# Altium schematic symbol library RK3568_train.SCHLIB: 159 symbols (part 3 of 3)
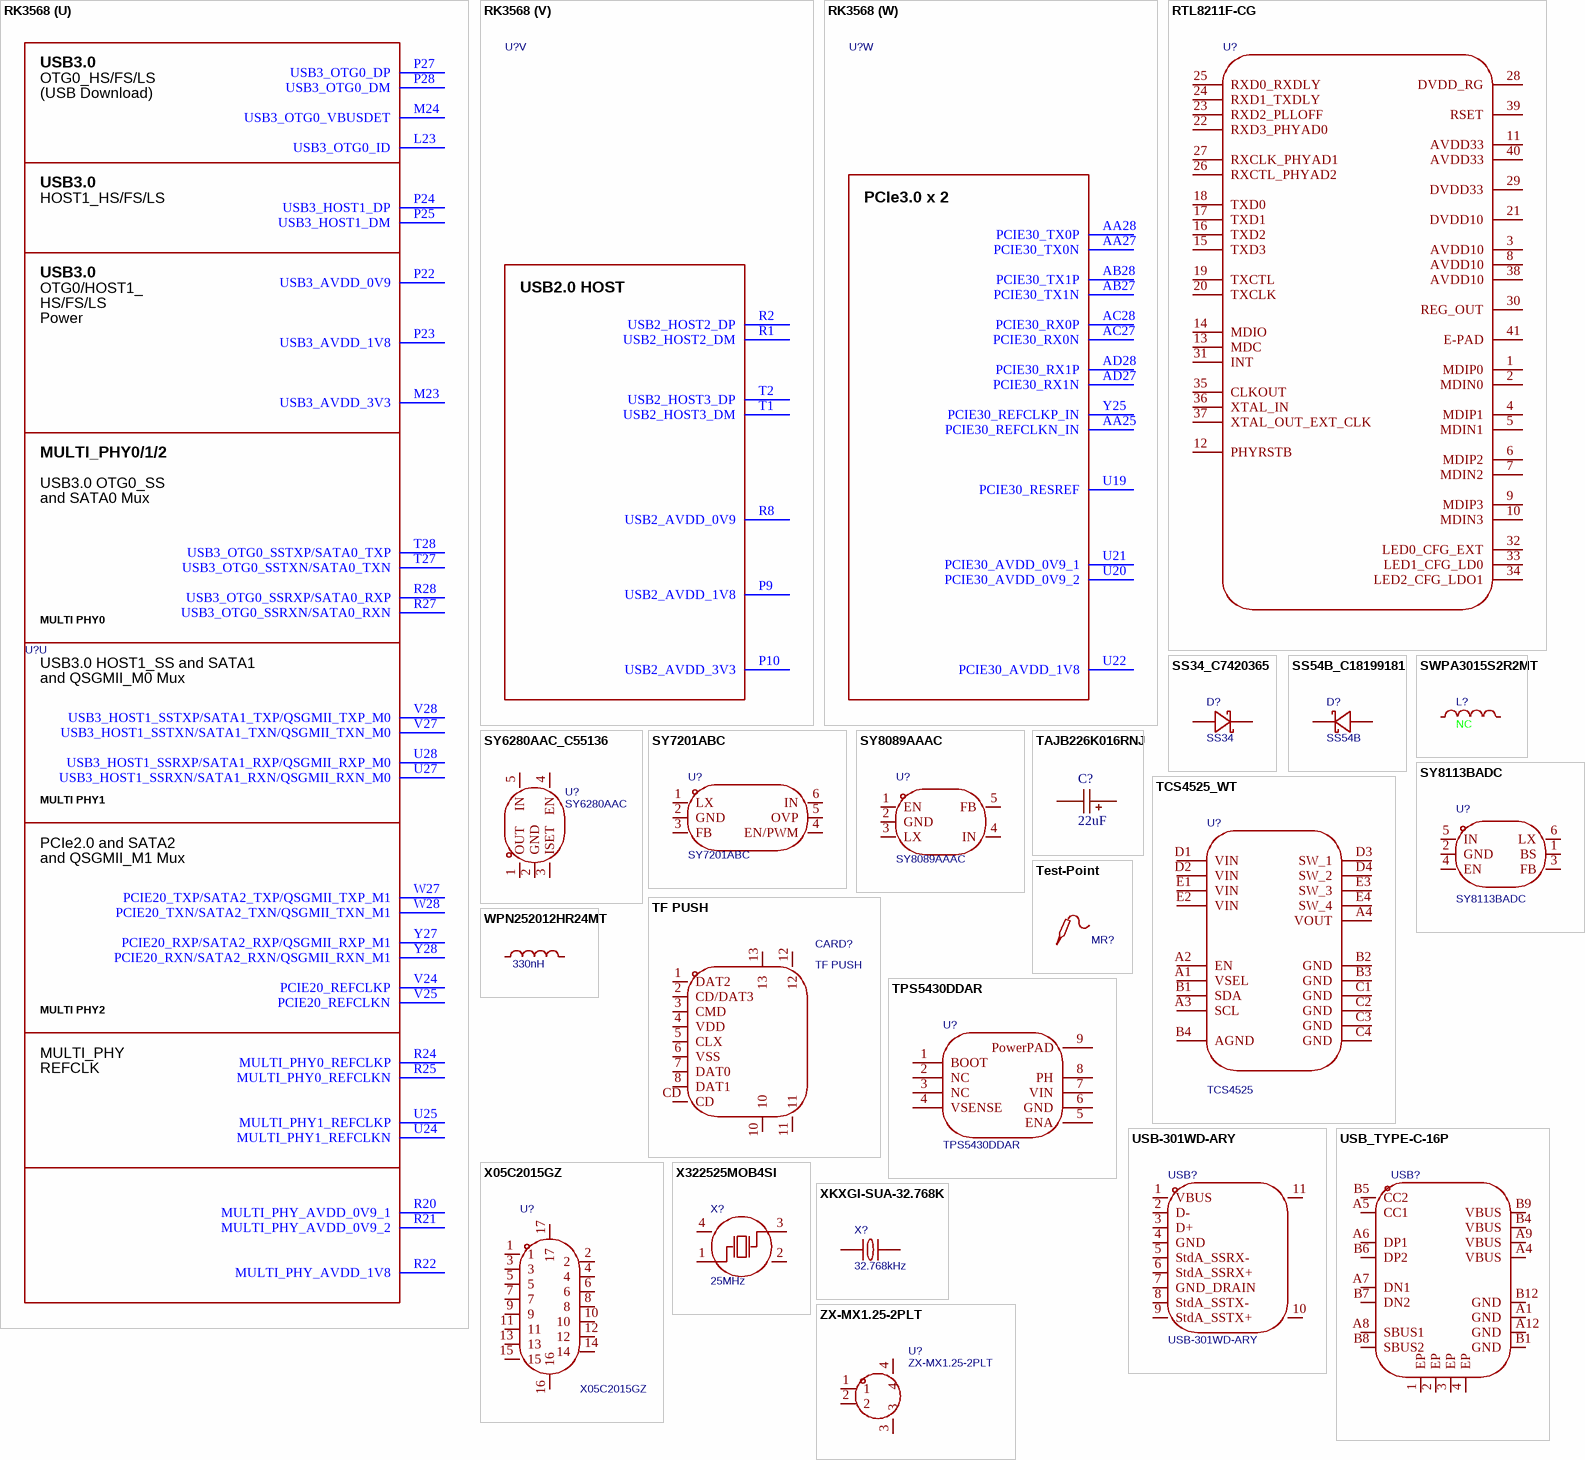
[diagram p13: symbols RK3568 to ZX-MX1.25-2PLT]

## SY6280AAC_C55136
designator U?, comment SY6280AAC
低能耗配电开关; Manufacturer: silergy(矽力杰); Device: SY6280AAC_C55136; AddInBom: yes; ModelId: 0a2a1b8f50944f73965918ad6e5fe167; ModelName: SOT-23-5_L2.9-W1.6-H1.1-LS2.8-P0.95; ModelTransform: 118.60433,114.173,0,90,0,0,0.0005,0.0005,0; Symbol: SY6280AAC; LCSC Part Name: SY6280AAC; SupplierPart: C55136; ManufacturerPart: SY6280AAC; Supplier Footprint: SOT-23-5; JLCPCB Part Class: Extended Part; Datasheet: https://atta.szlcsc.com/upload/public/pdf/source/20161108/1478586372822.pdf; Supplier: LCSC; ConvertToPcb: yes; FootprintName: SOT-23-5_L3.0-W1.7-P0.95-LS2.8-BL
footprint SOT-23-5_L3.0-W1.7-P0.95-LS2.8-BL
pins: 1 OUT, 2 GND, 3 ISET, 4 EN, 5 IN

## SY7201ABC
designator U?
拓扑结构:升压;; Manufacturer: Silergy(矽力杰); AddInBom: yes; ModelId: 18da8f6c14a34920b3e136b5c401a119; ModelName: SOT-23-6_L2.9-W1.6-H1.5-LS2.8-P0.95; ModelTransform: 110.73671,114.173,0,180,0,0,0.001,-0.003,0; Topology: 升压; Symbol: SY7201ABC; Device: SY7201ABC; LCSC Part Name: SY7201ABC; SupplierPart: C82173; ManufacturerPart: SY7201ABC; Supplier Footprint: SOT-23-6; JLCPCB Part Class: 扩展库; Datasheet: https://atta.szlcsc.com/upload/public/pdf/source/20160903/1472896628181.pdf; Supplier: LCSC; ConvertToPcb: yes; FootprintName: SOT-23-6_L2.9-W1.6-P0.95-LS2.8-BR
footprint SOT-23-6_L2.9-W1.6-P0.95-LS2.8-BR
pins: 1 LX, 2 GND, 3 FB, 4 EN/PWM, 5 OVP, 6 IN

## SY8089AAAC
designator U?
功能类型:降压型;同步整流:-;输出通道数:-;拓扑结构:-;输入电压:-;输出电流(最大值):-;开关频率:-;; Manufacturer: silergy(矽力杰); Value: NC; Add into BOM: no; ConvertToPcb: yes; ModelId: 0a2a1b8f50944f73965918ad6e5fe167; ModelName: SOT-23-5_L2.9-W1.6-H1.1-LS2.8-P0.95; ModelTransform: 114.173,109.636,0,180,0,0,-0.863,0.863,0; Function: 降压型; Device: SY8089AAAC; Symbol: SY8089AAAC; LCSC Part Name: 降压型; ManufacturerPart: SY8089AAAC; Supplier Footprint: SOT-23-5; JLCPCB Part Class: Extended Part; Datasheet: https://atta.szlcsc.com/upload/public/pdf/source/20210826/394049C81A2AF57A190C26FDBC282657.pdf; Supplier: LCSC; FootprintName: SOT-23-5_L3.0-W1.7-P0.95-LS2.8-BR; Synchronous Rectification: -; Number of Outputs: -; Topology: -; Input Voltage: -; Output Current (Max): -; Switching Frequency: -
footprint SOT-23-5_L3.0-W1.7-P0.95-LS2.8-BR
pins: 1 EN, 2 GND, 3 LX, 4 IN, 5 FB

## SY8113BADC
designator U?
功能类型:降压型;同步整流:-;输出通道数:-;拓扑结构:-;输入电压:-;输出电流(最大值):-;开关频率:-;; Manufacturer: silergy(矽力杰); AddInBom: yes; Function: 降压型; ModelId: 2c4039b5b88644c1bda4b4ba9e971667; ModelName: TSOT-23-6_L2.9-W1.6-H1.1-LS2.8-P0.95; ModelTransform: 110.45568,114.173,0,180,0,0,-0.005,-0.0005,0; JLCPCB Part Class: Extended Part; Device: SY8113BADC; LCSC Part Name: 降压型; SupplierPart: C78989; ManufacturerPart: SY8113BADC; Supplier Footprint: TSOT-23-6; Datasheet: https://atta.szlcsc.com/upload/public/pdf/source/20161125/1480067827505.pdf; Supplier: LCSC; ConvertToPcb: yes; Synchronous Rectification: -; Number of Outputs: -; Topology: -; Input Voltage: -; Output Current (Max): -; Switching Frequency: -; SymbolName: SY8113BADC; FootprintName: TSOT-23-6_L2.9-W1.6-P0.95-LS2.8-BR
footprint TSOT-23-6_L2.9-W1.6-P0.95-LS2.8-BR
pins: 1 BS, 2 GND, 3 FB, 4 EN, 5 IN, 6 LX

## TAJB226K016RNJ
designator C?, comment 22uF
容值:22uF;精度:±10%;额定电压:16V;等效串联电阻(ESR):2.3Ω@100kHz;; Manufacturer: Kyocera AVX; Manufacturer Part: TAJB226K016RNJ; NPNP_COMPONENT_ID: C8020; Tolerance: ?0%; Voltage Rating: 16V; Footprint: CASE-B_3528; Equivalent Series Resistance(ESR): 2.3Ω@100kHz; JLCPCB Part Class: Extended Part; LCSC Part Name: 22uF ?0% 16V; Operating Temperature: -55℃~+125℃; Supplier: LCSC; Supplier Footprint: CASE-B-3528-21(mm); Supplier Part: C8020; Value: 22uF
footprint CASE-B_3528 (PCB footprint)
pins: 1, 2

## TCS4525_WT
designator U?, comment TCS4525
高频，高电流同步降压DC-DC模块; Device: TCS4525_WT; Check: false; AddInBom: yes; ConvertToPcb: yes; SymbolName: TCS4525_WT; FootprintName: TCS4525
footprint TCS4525
pins: A1 VSEL, A2 EN, A3 SCL, A4 VOUT, B1 SDA, B2 GND, B3 GND, B4 AGND, C1 GND, C2 GND, C3 GND, C4 GND, D1 VIN, D2 VIN, D3 SW_1, D4 SW_2, E1 VIN, E2 VIN, E3 SW_3, E4 SW_4

## Test-Point
designator MR?
Test Point 测试点; Device: Test-Point; AddInBom: yes; ConvertToPcb: yes; SymbolName: Test-Point; FootprintName: Test-Point-0.5mm
footprint Test-Point-0.5mm
pins: 1

## TF PUSH
designator CARD?
卡连接方式:自弹式;卡类型:MicroSD卡(TF卡);连接器类型:卡座;本体最大高度:2mm;工作温度范围:-20℃~+90℃;; Manufacturer: SHOU HAN(首韩); AddInBom: yes; ModelId: 2d6270e77c9a43c6bb0aca962ba811a2; ModelName: TF-SMD_TF-PUSH; ModelTransform: 635.826,598.424,0,0,0,0,0.002,-82.441,-23.622; Card Connection Mode: 自弹式; Connector Type: 卡座; Additional Card Detection Pins: 无; Maximum Body Height: 2mm; Symbol: TF PUSH; Device: TF PUSH; LCSC Part Name: 自弹式 MicroSD卡(TF卡) 卡座; SupplierPart: C393941; ManufacturerPart: TF PUSH; Supplier Footprint: SMD; JLCPCB Part Class: 扩展库; Datasheet: https://atta.szlcsc.com/upload/public/pdf/source/20191011/C393941_0DDD896EE907FEB750D8B7B8982E2A67.pdf; Supplier: LCSC; ConvertToPcb: yes; FootprintName: TF-SMD_TF-PUSH; Card Type: MicroSD卡(TF卡); Supplementary Features: -; Operating Temperature Range: -20℃~+90℃
footprint TF-SMD_TF-PUSH
pins: 1 DAT2, 2 CD/DAT3, 3 CMD, 4 VDD, 5 CLX, 6 VSS, 7 DAT0, 8 DAT1, 10, 11, 12, 13, CD

## TPS5430DDAR
designator U?
功能类型:降压型;输出类型:可调;工作电压:5.5V~36V;输出电压:1.221V~32.04V;输出电流:3A;; Manufacturer: TI(德州仪器); AddInBom: yes; ModelId: 821ddb58f3244ffb9a5d6f8174c5b14e; ModelName: ESOP-8_L4.9-W3.9-P1.27-LS6.0-TL-EP; ModelTransform: 236.22,192.913,0,0,0,0,0,0,0; Function: 降压型; Output Type: 可调; Output Current: 3A; Switching Frequency: 500kHz; Synchronous Rectification: 否; Number of Outputs: 1; Topology: 降压式; Switch tube (built-in/external): 内置; Symbol: TPS5430DDAR; Device: TPS5430DDAR; LCSC Part Name: 宽输入范围、3A输出电流的降压转换器; SupplierPart: C9864; ManufacturerPart: TPS5430DDAR; Supplier Footprint: SOIC-8-EP; JLCPCB Part Class: 基础库; Datasheet: https://www.ti.com/cn/lit/gpn/tps5430; Supplier: LCSC; ConvertToPcb: yes; FootprintName: ESOP-8_L4.9-W3.9-P1.27-LS6.0-TL-EP; Input Voltage: 5.5V~36V; Output Voltage: 1.221V~32.04V; Operating Temperature: -40℃~+125℃@(TJ)
footprint ESOP-8_L4.9-W3.9-P1.27-LS6.0-TL-EP
pins: 1 BOOT, 2 NC, 3 NC, 4 VSENSE, 5 ENA, 6 GND, 7 VIN, 8 PH, 9 PowerPAD

## USB-301WD-ARY
designator USB?
连接器类型:Type-A;协议标准:USB 3.0;公母:母;安装方式:弯插;触点数量:9P;端口数量:1;额定电流 - 电源:1.8A;工作温度:-55℃~+85℃;; Manufacturer: XUNPU(讯普); AddInBom: yes; ModelId: 132fa2449e784102b2ac907af48270b0; ModelName: USB-TH_XUNPU_USB-301WD-ARY; ModelTransform: 622.05687,649.605,0,0,0,0,0,-209.84,-118.11; Connector Type: Type-A; Protocol Standard: USB 3.0; Gender: 母; Number of Contacts: 9P; Number of Ports: 1; Current Rating-Power: 1.8A; Voltage Rating: 30V; Detection color: 蓝色; Symbol: USB-301WD-ARY; Device: USB-301WD-ARY; LCSC Part Name: Type-A 母 弯插; SupplierPart: C2895025; ManufacturerPart: USB-301WD-ARY; Supplier Footprint: 插件; JLCPCB Part Class: 扩展库; Datasheet: https://item.szlcsc.com/datasheet/USB-301WD-ARY/3132962.html; Supplier: LCSC; ConvertToPcb: yes; FootprintName: USB-TH_XUNPU_USB-301WD-ARY; Mounting Type: 弯插; Length: 16.5mm; Operating Temperature: -55℃~+85℃
footprint USB-TH_XUNPU_USB-301WD-ARY
pins: 1 VBUS, 2 D-, 3 D+, 4 GND, 5 StdA_SSRX-, 6 StdA_SSRX+, 7 GND_DRAIN, 8 StdA_SSTX-, 9 StdA_SSTX+, 10 SHIELD, 11 SHIELD

## USB_TYPE-C-16P
designator USB?
Device: USB_TYPE-C-16P; AddInBom: yes; ModelId: 35058e297fd54ee2afd2de30c3ce7155; ModelName: USB-C_SMD-TYPE-C-31-M-12; ModelTransform: 360,318.121,0,180,0,0,0,-41.02,-39.37; Symbol: USB_TYPE-C-16P; Supplier Footprint: SMD; ConvertToPcb: yes; FootprintName: USB_TYPE-C-16P
footprint USB_TYPE-C-16P
pins: 1 EP, 2 EP, 3 EP, 4 EP, A1 GND, A4 VBUS, A5 CC1, A6 DP1, A7 DN1, A8 SBUS1, A9 VBUS, A12 GND, B1 GND, B4 VBUS, B5 CC2, B6 DP2, B7 DN2, B8 SBUS2, B9 VBUS, B12 GND

## WPN252012HR24MT
designator L?, comment 330nH
Manufacturer: Sunlord(顺络); Device: WPN252012HR24MT; AddInBom: yes; ModelId: 7ae8e774cfcf498ea5119a488d0de531; ModelName: IND-SMD_L2.5-W2.0-H1.2-252012; ModelTransform: 78.74,99.2124,0,90,0,0,0,0,0; Symbol: WPN252012HR24MT; LCSC Part Name: 240nH ±20%; SupplierPart: C305274; ManufacturerPart: WPN252012HR24MT; Supplier Footprint: SMD,2.5x2.0x1.2mm; JLCPCB Part Class: Extended Part; Supplier: LCSC; ConvertToPcb: yes; FootprintName: IND-SMD_L2.5-W2.0_WPN252012H
footprint IND-SMD_L2.5-W2.0_WPN252012H
pins: 1, 2

## X05C2015GZ
designator U?
锁定特性:抽屉式;触点类型:单侧触点/垂直;触点数量:15P;间距:0.5mm;安装方式:立贴;工作温度:-40℃~+85℃;; Manufacturer: XKB Connection(中国星坤); AddInBom: yes; ModelId: da5f495125dc49909a9ff79830e9b65f; ModelName: FPC-SMD_15P-P0.50_XKB_X05C2015GZ; ModelTransform: 515.747,118.11,0,0,0,0,0,0,0; Locking Feature: 抽屉式; Number of Contacts: 15P; Pitch: 0.5mm; FFC, FCB Thickness: 0.3mm; Symbol: X05C2015GZ; Device: X05C2015GZ; LCSC Part Name: 间距:0.5mm P数:15P 抽屉式 单侧触点/垂直; SupplierPart: C2880899; ManufacturerPart: X05C2015GZ; Supplier Footprint: SMD,P=0.5mm; JLCPCB Part Class: 扩展库; Datasheet: https://atta.szlcsc.com/upload/public/pdf/source/20211011/FB814D820E44B2E0BC67EE682E3C499B.pdf; Supplier: LCSC; ConvertToPcb: yes; FootprintName: FPC-SMD_15P-P0.50_XKB_X05C2015GZ; Contact Type: 单侧触点/垂直; Mounting Type: 立贴; Height Above Board: 2mm; Contact Material: 磷青铜; Contact Plating: 金; Operating Temperature: -40℃~+85℃
footprint FPC-SMD_15P-P0.50_XKB_X05C2015GZ
pins: 1, 2, 3, 4, 5, 6, 7, 8, 9, 10, 11, 12, 13, 14, 15, 16, 17

## X322525MOB4SI
designator X?, comment 25MHz
晶振类型:贴片晶振;频率:25MHz;常温频差:±10ppm;负载电容:12pF;频率稳定度:±20ppm;; Manufacturer: YXC(扬兴晶振); Symbol: X322525MOB4SI; AddInBom: yes; ModelId: 02485e56ba8d4732a26526d2983fc729; ModelName: CRYSTAL-SMD_4P-L3.2-W2.5-BL; ModelTransform: 125.984,98.425,0,0,0,0,0,0,0; Normal temperature Frequency Tolerance: ±10ppm; Load Capacitance: 12pF; Frequency Stability: ±20ppm; Device: X322525MOB4SI; LCSC Part Name: YSX321SL 25MHZ 4P 3225 12PF ±10PPM -40~85℃ (±20PPM); SupplierPart: C9006; ManufacturerPart: X322525MOB4SI; Supplier Footprint: SMD3225-4P; JLCPCB Part Class: 基础库; Datasheet: https://item.szlcsc.com/datasheet/X322525MOB4SI/9526.html; Supplier: LCSC; ConvertToPcb: yes; FootprintName: CRYSTAL-SMD_4P-L3.2-W2.5-BL; Type: 贴片晶振; Value: 25MHz; Operating Temperature: -40℃~+85℃
footprint CRYSTAL-SMD_4P-L3.2-W2.5-BL
pins: 1 OSC1, 2 GND, 3 OSC2, 4 GND

## XKXGI-SUA-32.768K
designator X?, comment 32.768kHz
频率:32.768kHz;频率公差:±20ppm;负载电容:12.5pF;; Manufacturer: YXC(扬兴晶振); Equivalent Series Resistance (ESR): 70kΩ; Symbol: FC-135 32.7680KA-A; Device: XKXGI-SUA-32.768K; AddInBom: yes; ModelId: 762d7afc596f4558a373612390f4386d; ModelName: CRYSTAL-SMD_L3.2-W1.5-1; ModelTransform: 125.984,59.055,0,0,0,0,0,0,0; Crystal Type: 贴片无源晶振; Frequency Tolerance: ±20ppm; Load Capacitance: 12.5pF; Operating Temperature: -40℃~+85℃; Frequency Stability: -; LCSC Part Name: 32.768kHz ±20ppm 12.5pF YST310S; SupplierPart: C5213671; ManufacturerPart: XKXGI-SUA-32.768K; Supplier Footprint: SMD3215-2P; JLCPCB Part Class: Extended Part; Datasheet: https://atta.szlcsc.com/upload/public/pdf/source/20221026/C961783E7D3E186CA8CEB40DFC46D85F.pdf; Supplier: LCSC; ConvertToPcb: yes; FootprintName: CRYSTAL-SMD_L3.2-W1.5-1; Value: 32.768kHz
footprint CRYSTAL-SMD_L3.2-W1.5-1
pins: 1, 2

## ZX-MX1.25-2PLT
designator U?
插针结构:1x2P;间距:1.25mm;安装方式:立贴;参考系列:PicoBlade(MX 1.25);总PIN数:2P;排数:1;每排PIN数:2;行距:-;额定电流:1A;触头材质:黄铜;触头镀层:锡;工作温度:-25℃~+85℃;; Manufacturer: Megastar(兆星); AddInBom: yes; ModelId: 48bd7d836b6f42088ab475ec0682dcba聨0819f05c4eef4c71ace90d822a990e87; ModelName: CONN-SMD_2P-P1.25-MX1.25-2P-LT; ModelTransform: 289.37,165.354,0,180,0,0,0,-15,0; Pins Structure: 1x2P; Pitch: 1.25mm; Number of PINs Per Row: 2; Current Rating: 1A; Voltage Rating: 125V; Plastic Material: LCP; Supplementary Features: 辅助焊脚; Z-Height of the Board: 4.7mm; X-Length of Bottom Edge on Board (Spacing Line): 7.5mm; Y-Width of Bottom Edge on Board: 4.3mm; Symbol: ZX-MX1.25-2PLT; Device: ZX-MX1.25-2PLT; LCSC Part Name: 1x2P 间距:1.25mm 立贴 系列:PicoBlade(MX 1.25); SupplierPart: C7430473; ManufacturerPart: ZX-MX1.25-2PLT; Supplier Footprint: SMD,P=1.25mm; JLCPCB Part Class: Extended Part; Datasheet: https://item.szlcsc.com/datasheet/ZX-MX1.25-2PLT/8430342.html; Supplier: LCSC; ConvertToPcb: yes; FootprintName: CONN-SMD_2P-P1.25-MX1.25-2P-LT; Mounting Type: 立贴; Reference Series: PicoBlade(MX 1.25); Number of Pins: 2P; Number of Rows: 1; Row Spacing: -; Contact Material: 黄铜; Contact Plating: 锡; Operating Temperature: -25℃~+85℃; Flame Retardant Rating: -; Color: 米色
footprint CONN-SMD_2P-P1.25-MX1.25-2P-LT
pins: 1, 2, 3, 4